# EAGLE library part SN74LVCG207 (library TI)
SN74LVC2G07: Dual Buffer/Driver with Open Drain Outputs no datasheet 4 u!!
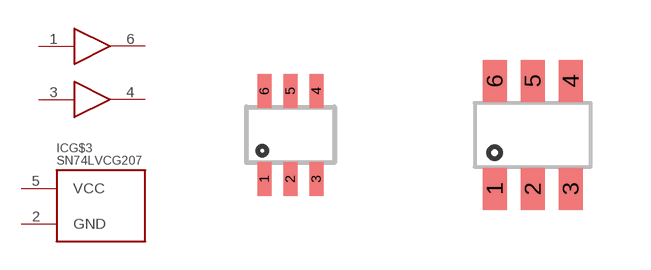
[diagram p6: symbol with the pads of DCK_(R-PDSO-G6); footprints DCK_(R-PDSO-G6), DBV_(R-PDSO-G6)]

Designator prefix IC; gates G$1=BUFFER G$2=BUFFER G$3=SN74LVCG207_PWR

## SN74LVCG207  [DCK_(R-PDSO-G6)]
1  G$1:A  in
2  G$3:GND  pwr
3  G$2:A  in
4  G$2:Y  out
5  G$3:VCC  pwr
6  G$1:Y  out

## SN74LVCG207DBV  [DBV_(R-PDSO-G6)]
Pads as for DCK_(R-PDSO-G6)

## Footprint DCK_(R-PDSO-G6) (pad centres in mm)
TI DCK (R-PDSO-G6): PLASTIC SMALL OUTLINE From http://www.ti.com/lit/ml/mpds114c/mpds114c.pdf
smd 0.35 x 0.85: 1 -0.65,-1.1; 2 0,-1.1; 3 0.65,-1.1; 4 0.65,1.1; 5 0,1.1; 6 -0.65,1.1

## Footprint DBV_(R-PDSO-G6) (pad centres in mm)
DBV (R-PDSO-G6) (it's just SOT-23-6) check it http://datasheet.octopart.com/SN74LVC2G07DBVR-Texas-Instruments-datasheet-57921.pdf
smd 0.6 x 1.05: 1 -0.95,-1.35; 2 0,-1.35; 3 0.95,-1.35; 4 0.95,1.35; 5 0,1.35; 6 -0.95,1.35